# EAGLE library part AVR-ISP (library avr)
AVR In-System-Programming Port
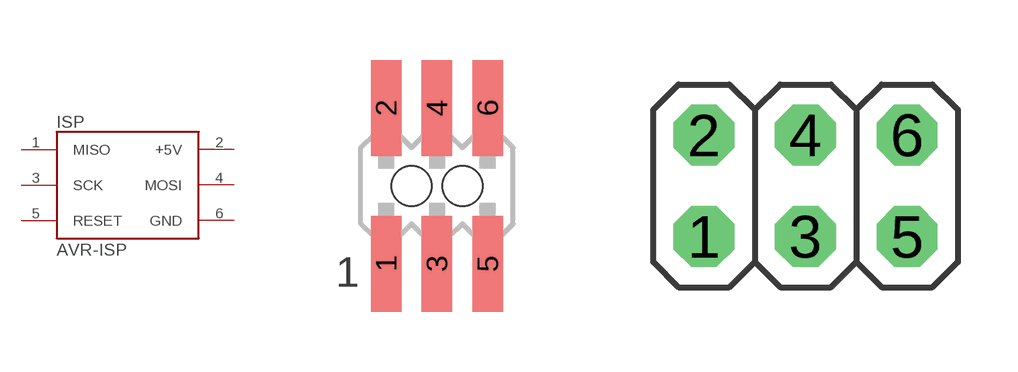
[diagram p1: symbol with the pads of 20021121-10006XXLF; footprints 20021121-10006XXLF, 2X03]

Designator prefix ISP

## AVR-ISPSMD-127-6  [20021121-10006XXLF]
1  MISO
2  +5V
3  SCK
4  MOSI
5  RESET
6  GND

## AVR-ISP254  [2X03]
Pads as for 20021121-10006XXLF

## AVR-ISP_254SMD  [2X03SMD]
Pads as for 20021121-10006XXLF

## Footprint 20021121-10006XXLF (pad centres in mm)
Minitek 1.27mm SMD Header 6 Pin
smd 0.76 x 2.4: 1 -1.27,-1.95; 2 -1.27,1.95; 3 0,-1.95; 4 0,1.95; 5 1.27,-1.95; 6 1.27,1.95
hole 1 at -0.635,0
hole 1 at 0.635,0

## Footprint 2X03 (pad centres in mm)
PIN HEADER - 2.54
drill 1.016 octagon: 1 -2.54,-1.27; 2 -2.54,1.27; 3 0,-1.27; 4 0,1.27; 5 2.54,-1.27; 6 2.54,1.27

## Footprint 2X03SMD (pad centres in mm)
PIN HEADER - 2.54 SMD
smd 1.016 x 3.302: 1 -2.54,-2.54; 2 -2.54,2.54; 3 0,-2.54; 4 0,2.54; 5 2.54,-2.54; 6 2.54,2.54